# Altium schematic symbol library SG_SCH_AltSobor_work.SchLib: 78 symbols
Pins are listed as number, name and electrical type; pins without a type are passive.

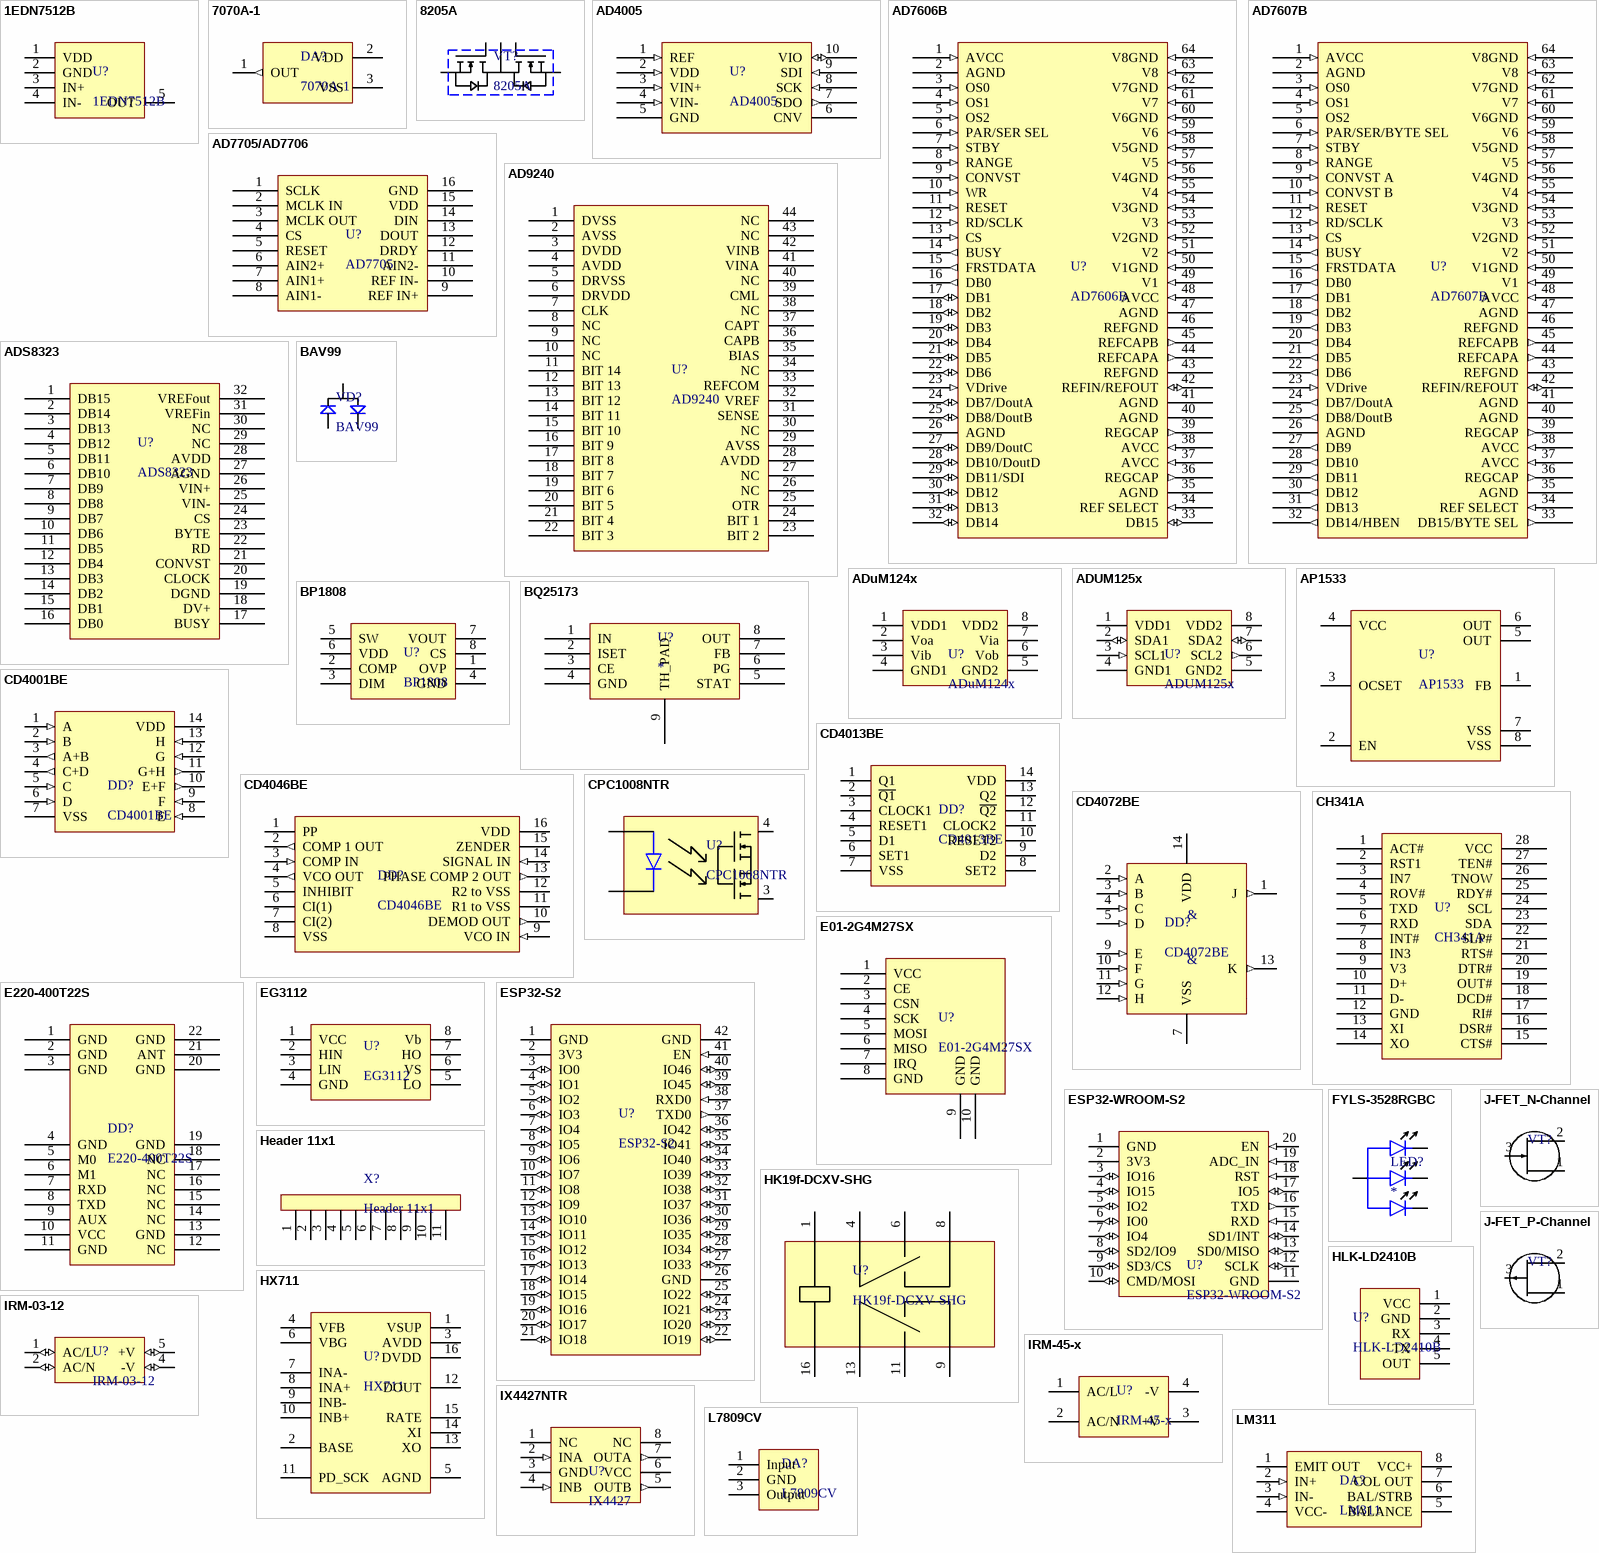
[diagram p0: symbols 1EDN7512B to LM311]

## 1EDN7512B
designator U?
Advanced single-channel drive; Order: 1EDN7512B
footprint SOT23-5
pins: 1 VDD, 2 GND, 3 IN+, 4 IN-, 5 OUT

## 7070A-1
designator DA?
Low Power Voltage Detector
pins: 1 OUT (out), 2 VDD (power), 3 VSS (power)

## 8205A
designator VT?
Dual N-Channel Enhancement PowerMosfet; Order: 8205A
footprint SOT23-6
pins: 1 S1, 2 D1/D2, 3 S2, 4 G2, 5 D1/D2, 6 G1

## AD4005
designator U?
ADC 16 bit, 1MSPS
pins: 1 REF (in), 2 VDD (in), 3 VIN+ (in), 4 VIN- (in), 5 GND (power), 6 CNV, 7 SDO (out), 8 SCK (in), 9 SDI (in), 10 VIO (io)

## AD7606B
designator U?
ADC 16-bit, 800ksps, parallel
pins: 1 AVCC (in), 2 AGND (power), 3 OS0 (in), 4 OS1 (in), 5 OS2 (in), 6 PAR/SER SEL (in), 7 STBY (in), 8 RANGE (in), 9 CONVST (in), 10 WR (in), 11 RESET (in), 12 RD/SCLK (in), 13 CS (in), 14 BUSY (out), 15 FRSTDATA (out), 16 DB0 (out), 17 DB1 (io), 18 DB2 (io), 19 DB3 (io), 20 DB4 (io), 21 DB5 (io), 22 DB6 (io), 23 VDrive (in), 24 DB7/DoutA (io), 25 DB8/DoutB (io), 26 AGND (power), 27 DB9/DoutC (io), 28 DB10/DoutD (io), 29 DB11/SDI (io), 30 DB12 (io), 31 DB13 (io), 32 DB14 (io), 33 DB15 (io), 34 REF SELECT (in), 35 AGND (power), 36 REGCAP (out), 37 AVCC (in), 38 AVCC (in), 39 REGCAP (out), 40 AGND (power), 41 AGND (power), 42 REFIN/REFOUT (io), 43 REFGND (power), 44 REFCAPA (out), 45 REFCAPB (out), 46 REFGND (power), 47 AGND (power), 48 AVCC (in), 49 V1 (in), 50 V1GND (in), 51 V2 (in), 52 V2GND (in), 53 V3 (in), 54 V3GND (in), 55 V4 (in), 56 V4GND (in), 57 V5 (in), 58 V5GND (in), 59 V6 (in), 60 V6GND (in), 61 V7 (in), 62 V7GND (in), 63 V8 (in), 64 V8GND (in)

## AD7607B
designator U?
ADC 16-bit, 800ksps, parallel
pins: 1 AVCC (in), 2 AGND (power), 3 OS0 (in), 4 OS1 (in), 5 OS2, 6 PAR/SER/BYTE SEL (in), 7 STBY (in), 8 RANGE (in), 9 CONVST A (in), 10 CONVST B (in), 11 RESET (in), 12 RD/SCLK (in), 13 CS (in), 14 BUSY (out), 15 FRSTDATA (out), 16 DB0 (out), 17 DB1 (out), 18 DB2 (out), 19 DB3 (out), 20 DB4 (out), 21 DB5 (out), 22 DB6 (out), 23 VDrive (in), 24 DB7/DoutA (out), 25 DB8/DoutB (out), 26 AGND (power), 27 DB9 (out), 28 DB10 (out), 29 DB11 (out), 30 DB12 (out), 31 DB13 (out), 32 DB14/HBEN (out), 33 DB15/BYTE SEL (out), 34 REF SELECT (in), 35 AGND (power), 36 REGCAP (out), 37 AVCC (in), 38 AVCC (in), 39 REGCAP (out), 40 AGND (power), 41 AGND (power), 42 REFIN/REFOUT (io), 43 REFGND (power), 44 REFCAPA (out), 45 REFCAPB (out), 46 REFGND (power), 47 AGND (power), 48 AVCC (in), 49 V1 (in), 50 V1GND (in), 51 V2 (in), 52 V2GND (in), 53 V3 (in), 54 V3GND (in), 55 V4 (in), 56 V4GND (in), 57 V5 (in), 58 V5GND (in), 59 V6 (in), 60 V6GND (in), 61 V7 (in), 62 V7GND (in), 63 V8 (in), 64 V8GND (in)

## AD7705/AD7706
designator U?, comment AD7705
2 fully differential input channel ADCs 16 bit
pins: 1 SCLK, 2 MCLK IN, 3 MCLK OUT, 4 CS, 5 RESET, 6 AIN2+, 7 AIN1+, 8 AIN1-, 9 REF IN+, 10 REF IN-, 11 AIN2-, 12 DRDY, 13 DOUT, 14 DIN, 15 VDD, 16 GND

## AD9240
designator U?
ADC 14 bit
pins: 1 DVSS, 2 AVSS, 3 DVDD, 4 AVDD, 5 DRVSS, 6 DRVDD, 7 CLK, 8 NC, 9 NC, 10 NC, 11 BIT 14, 12 BIT 13, 13 BIT 12, 14 BIT 11, 15 BIT 10, 16 BIT 9, 17 BIT 8, 18 BIT 7, 19 BIT 6, 20 BIT 5, 21 BIT 4, 22 BIT 3, 23 BIT 2, 24 BIT 1, 25 OTR, 26 NC, 27 NC, 28 AVDD, 29 AVSS, 30 NC, 31 SENSE, 32 VREF, 33 REFCOM, 34 NC, 35 BIAS, 36 CAPB, 37 CAPT, 38 NC, 39 CML, 40 NC, 41 VINA, 42 VINB, 43 NC, 44 NC

## ADS8323
designator U?
ADC 16 bit 500 kSPS; Order: ADS8323
footprint QFN-32 (, Pitch 0,40mm, Thermal Pad 2,80x2,80mm, IPC Medium Density)
footprint TQFP-32 (TQFP, 32-Leads, Body 7,00x7,00mm, Pitch 0,80mm, IPC Medium Density)
pins: 1 DB15, 2 DB14, 3 DB13, 4 DB12, 5 DB11, 6 DB10, 7 DB9, 8 DB8, 9 DB7, 10 DB6, 11 DB5, 12 DB4, 13 DB3, 14 DB2, 15 DB1, 16 DB0, 17 BUSY, 18 DV+, 19 DGND, 20 CLOCK, 21 CONVST, 22 RD, 23 BYTE, 24 CS, 25 VIN-, 26 VIN+, 27 AGND, 28 AVDD, 29 NC, 30 NC, 31 VREFin, 32 VREFout

## ADuM124x
designator U?
Order: ADuM124x
footprint Order (Footprint not found)
footprint SO-8 (Small Outline; 8 Leads; Body Width 3.9 mm; Pitch 1.27 mm)
pins: 1 VDD1, 2 Voa, 3 Vib, 4 GND1, 5 GND2, 6 Vob, 7 Via, 8 VDD2

## ADUM125x
designator U?
Hot Swappable Dual I2C Isolators; Order: ADUM1251
footprint SO-8 (Small Outline; 8 Leads; Body Width 3.9 mm; Pitch 1.27 mm)
pins: 1 VDD1 (power), 2 SDA1 (io), 3 SCL1 (in), 4 GND1 (power), 5 GND2 (power), 6 SCL2 (out), 7 SDA2 (io), 8 VDD2 (power)

## AP1533
designator U?
PWM CONTROL 1.8A STEP-DOWN CONVERTER
pins: 1 FB, 2 EN, 3 OCSET, 4 VCC, 5 OUT, 6 OUT, 7 VSS, 8 VSS

## BAV99
designator VD?
High-speed switching diodes; Order: BAV99
footprint SOT23-3
pins: 1, 2, 3

## BP1808
designator U?
Boost, Buck and Buck-Boost DC/DC LED Driver
footprint SO-8 (Small Outline; 8 Leads; Body Width 3.9 mm; Pitch 1.27 mm)
pins: 1 OVP, 2 COMP, 3 DIM, 4 GND, 5 SW, 6 VDD, 7 VOUT, 8 CS

## BQ25173
designator U?
pins: 1 IN (power), 2 ISET, 3 CE, 4 GND (power), 5 STAT, 6 PG, 7 FB, 8 OUT (power), 9 TH_PAD

## CD4001BE
designator DD?
4 & logic; Order: CD4001BE
pins: 1 A (in), 2 B (in), 3 A+B (out), 4 C+D (out), 5 C (in), 6 D (in), 7 VSS (power), 8 E (in), 9 F (in), 10 E+F (out), 11 G+H (out), 12 G (in), 13 H (in), 14 VDD (power)

## CD4013BE
designator DD?
2xTrigger; Order: CD4013BE
pins: 1 Q1, 2 ~{Q1}, 3 CLOCK1, 4 RESET1, 5 D1, 6 SET1, 7 VSS, 8 SET2, 9 D2, 10 RESET2, 11 CLOCK2, 12 ~{Q2}, 13 Q2, 14 VDD

## CD4046BE
designator DD?
CMOS Micropower Phase-Locked Loop
footprint DIP-16
pins: 1 PP, 2 COMP 1 OUT (out), 3 COMP IN (in), 4 VCO OUT (out), 5 INHIBIT, 6 CI(1), 7 CI(2), 8 VSS (power), 9 VCO IN (in), 10 DEMOD OUT (out), 11 R1 to VSS, 12 R2 to VSS, 13 PHASE COMP 2 OUT (out), 14 SIGNAL IN (in), 15 ZENDER (power), 16 VDD (power)

## CD4072BE
designator DD?
2x4-input OR; Order: CD4072BE
pins: 1 J (out), 2 A (in), 3 B (in), 4 C (in), 5 D (in), 6 NC, 7 VSS (power), 8 NC, 9 E (in), 10 F (in), 11 G (in), 12 H (in), 13 K (out), 14 VDD (power)
text: &

## CH341A
designator U?
USB-UART convertor
pins: 1 ACT#, 2 RST1, 3 IN7, 4 ROV#, 5 TXD, 6 RXD, 7 INT#, 8 IN3, 9 V3, 10 D+, 11 D-, 12 GND, 13 XI, 14 XO, 15 CTS#, 16 DSR#, 17 RI#, 18 DCD#, 19 OUT#, 20 DTR#, 21 RTS#, 22 SLP#, 23 SDA, 24 SCL, 25 RDY#, 26 TNOW, 27 TEN#, 28 VCC

## CPC1008NTR
designator U?
4-Pin SOP OptoMOS® Relay; Order: CPC1008NTR
footprint 4-SMD (SOIC, 4-Leads, Body 4,60x6,50mm, Pitch 1,27mm, IPC Medium Density)
pins: 1 Control+, 2 Control-, 3 Load, 4 Load

## E01-2G4M27SX
designator U?
NRF-Radio 2.4 GHz; Order: E01-2G4M27SX
pins: 1 VCC, 2 CE, 3 CSN, 4 SCK, 5 MOSI, 6 MISO, 7 IRQ, 8 GND, 9 GND, 10 GND

## E220-400T22S
designator DD?
22dBm LoRa module; Order: *; DefaultOrder: E220-400T22S
pins: 1 GND, 2 GND, 3 GND, 4 GND, 5 M0, 6 M1, 7 RXD, 8 TXD, 9 AUX, 10 VCC, 11 GND, 12 NC, 13 GND, 14 NC, 15 NC, 16 NC, 17 NC, 18 NC, 19 GND, 20 GND, 21 ANT, 22 GND

## EG3112
designator U?
Драйвер управления затвором; Order: EG3112
footprint SO-8 (Small Outline; 8 Leads; Body Width 3.9 mm; Pitch 1.27 mm)
pins: 1 VCC, 2 HIN, 3 LIN, 4 GND, 5 LO, 6 VS, 7 HO, 8 Vb

## ESP32-S2
designator U?
pins: 1 GND (power), 2 3V3 (power), 3 IO0 (io), 4 IO1 (io), 5 IO2 (io), 6 IO3 (io), 7 IO4 (io), 8 IO5 (io), 9 IO6 (io), 10 IO7 (io), 11 IO8 (io), 12 IO9 (io), 13 IO10 (io), 14 IO11 (io), 15 IO12 (io), 16 IO13 (io), 17 IO14 (io), 18 IO15 (io), 19 IO16 (io), 20 IO17 (io), 21 IO18 (io), 22 IO19 (io), 23 IO20 (io), 24 IO21 (io), 25 IO22 (io), 26 GND (power), 27 IO33 (io), 28 IO34 (io), 29 IO35 (io), 30 IO36 (io), 31 IO37 (io), 32 IO38 (io), 33 IO39 (io), 34 IO40 (io), 35 IO41 (io), 36 IO42 (io), 37 TXD0 (out), 38 RXD0 (in), 39 IO45 (io), 40 IO46 (io), 41 EN (in), 42 GND (power)

## ESP32-WROOM-S2
designator U?
pins: 1 GND (power), 2 3V3 (power), 3 IO16 (io), 4 IO15 (io), 5 IO2 (io), 6 IO0 (io), 7 IO4 (io), 8 SD2/IO9 (io), 9 SD3/CS (io), 10 CMD/MOSI (io), 11 GND (power), 12 SCLK (io), 13 SD0/MISO (io), 14 SD1/INT (io), 15 RXD (in), 16 TXD (out), 17 IO5 (io), 18 RST (in), 19 ADC_IN (in), 20 EN (in)

## FYLS-3528RGBC
designator LED?
Light Emmiting RGB Diode; Order: FYLS-3528RGBC
pins: 1 RED, 2 Anode, 3 GREEN, 4 BLUE

## Header 11x1
designator X?
Order: *
pins: 1, 2, 3, 4, 5, 6, 7, 8, 9, 10, 11

## HK19f-DCXV-SHG
designator U?
Реле; Order: HK19f-DCXV-SHG
pins: 1, 4, 6, 8, 9, 11, 13, 16

## HLK-LD2410B
designator U?
Human presence sensing module / Serial communication protocol; Order: HLK-LD2410B
pins: 1 VCC, 2 GND, 3 RX, 4 TX, 5 OUT

## HX711
designator U?
24-Bit Analog-to-Digital Converter (ADC) for Weigh Scales; Order: HX711
footprint SO-16
footprint SO-16_300mil
pins: 1 VSUP, 2 BASE, 3 AVDD, 4 VFB, 5 AGND, 6 VBG, 7 INA-, 8 INA+, 9 INB-, 10 INB+, 11 PD_SCK, 12 DOUT, 13 XO, 14 XI, 15 RATE, 16 DVDD

## IRM-03-12
designator U?
Order: IRM-03-12
footprint IRM-03-12
pins: 1 AC/L (io), 2 AC/N (io), 3 NC, 4 -V (io), 5 +V (io), 6 NC, 7 NC

## IRM-45-x
designator U?
45W AC-DC PCB-Mount Green Power Module; Order: *
footprint IRM-45
pins: 1 AC/L (power), 2 AC/N (power), 3 +V (power), 4 -V (power)

## IX4427NTR
designator U?, comment IX4427
1.5-Ampere Dual Low-Side / Ultrafast MOSFET Drivers; Order: IX4427NTR
footprint SO-8 (Small Outline; 8 Leads; Body Width 3.9 mm; Pitch 1.27 mm)
pins: 1 NC, 2 INA (in), 3 GND (power), 4 INB (in), 5 OUTB (out), 6 VCC (power), 7 OUTA (out), 8 NC

## J-FET_N-Channel
designator VT?
Order: *
footprint SOT23-3
pins: 1 S, 2 D, 3 G

## J-FET_P-Channel
designator VT?
Order: *
footprint SOT23-3
pins: 1 S, 2 D, 3 G

## L7809CV
designator DA?
L7809CV, Стабилизатор напряжения +9В, 1.5А, 4%, (0°C...+125°C), [TO-220]; Order: L7809CV
footprint TO-220
pins: 1 Input, 2 GND, 3 Output

## LM311
designator DA?
LMx11 Quad Differential Comparators; Order: LM311
footprint SO-8 (Small Outline; 8 Leads; Body Width 3.9 mm; Pitch 1.27 mm)
footprint DIP-8-300 (DIP; 8 Leads; Row Spacing 7.62 mm; Pitch 2.54 mm)
pins: 1 EMIT OUT (oe), 2 IN+ (in), 3 IN- (in), 4 VCC- (power), 5 BALANCE, 6 BAL/STRB, 7 COL OUT (oc), 8 VCC+

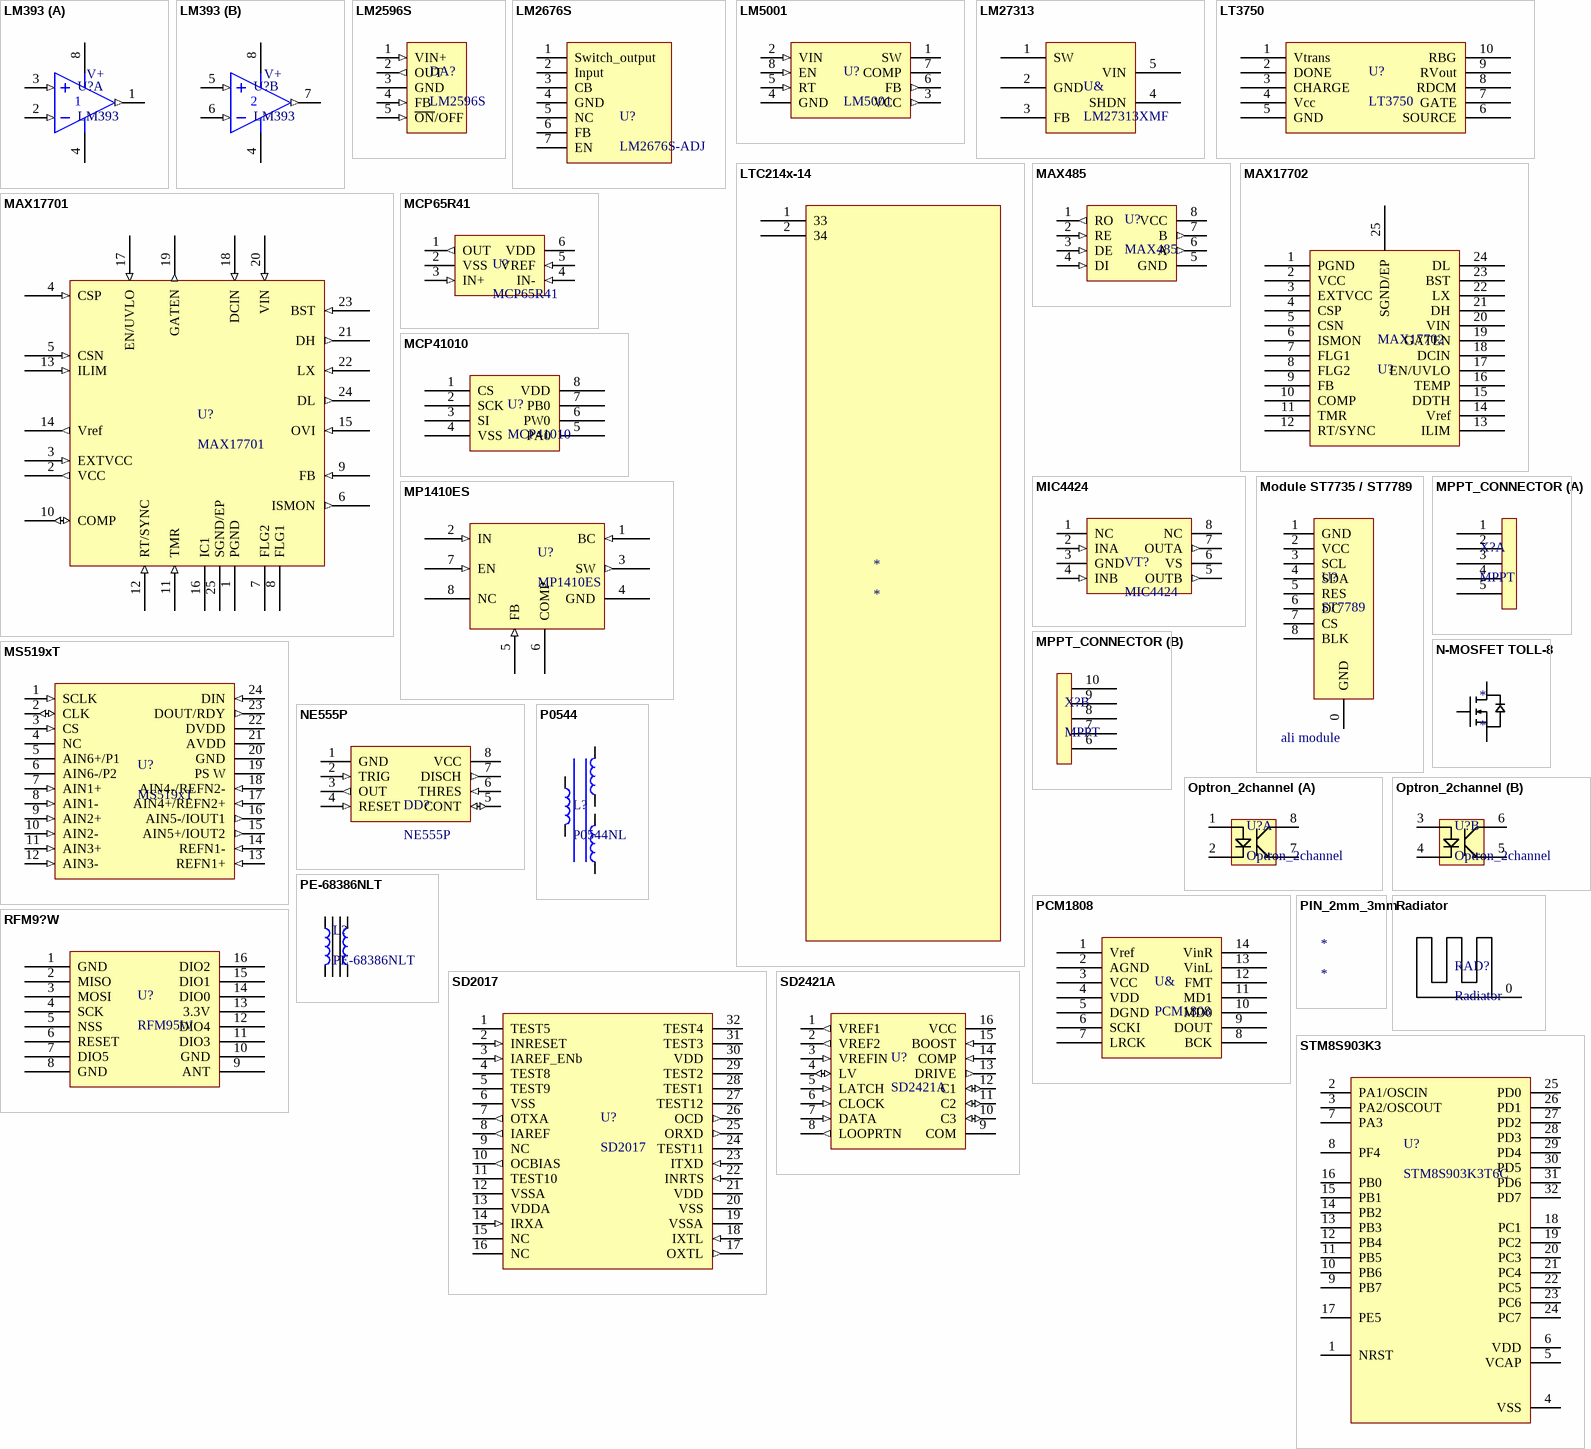
[diagram p1: symbols LM393 to STM8S903K3]

## LM393
designator U?
Двойной маломощный компаратор напряжения
part A pins: 1 OUT (out), 2 IN+ (in), 3 IN- (in), 4 V- (power), 8 V+ (power)
part B pins: 4 V- (power), 5 IN- (in), 6 IN+ (in), 7 OUT (out), 8 V+ (power)

## LM2596S
designator DA?
3A Step-Down Voltage Regulator; Order: LM2596S
pins: 1 VIN+ (in), 2 OUT (out), 3 GND (power), 4 FB (in), 5 ~{ON}/OFF (in)

## LM2676S
designator U?, comment LM2676S-ADJ
LM2676 SIMPLE SWITCHER® High Efficiency 3-A Step-Down Voltage Regulator; Order: LM2676S-ADJ
pins: 1 Switch_output, 2 Input, 3 CB, 4 GND, 5 NC, 6 FB, 7 EN

## LM5001
designator U?
High-Voltage Switch-Mode Regulator; Order: LM5001
footprint SO-8 (Small Outline; 8 Leads; Body Width 3.9 mm; Pitch 1.27 mm)
pins: 1 SW (oc), 2 VIN (in), 3 VCC (out), 4 GND (power), 5 RT (in), 6 FB (out), 7 COMP (oc), 8 EN (in)

## LM27313
designator U&, comment LM27313XMF
Order: LM27313XMF
footprint sop (Footprint not found)
footprint SOT23-5
pins: 1 SW, 2 GND, 3 FB, 4 SHDN, 5 VIN

## LT3750
designator U?
Capacitor Charger Controller
pins: 1 Vtrans (power), 2 DONE, 3 CHARGE, 4 Vcc (power), 5 GND (power), 6 SOURCE, 7 GATE, 8 RDCM, 9 RVout (power), 10 RBG

## LTC214x-14
designator *
pins: 1 33, 2 34

## MAX485
designator U?
Low-Power, Slew-Rate-Limited RS-485/RS-422 Transceivers; Order: MAX485ESA+T
footprint SO-8 (Small Outline; 8 Leads; Body Width 3.9 mm; Pitch 1.27 mm)
pins: 1 RO (out), 2 RE (in), 3 DE (in), 4 DI (in), 5 GND (power), 6 A (out), 7 B (out), 8 VCC (power)

## MAX17701
designator U?
Supercap charger
pins: 1 PGND (power), 2 VCC (out), 3 EXTVCC (in), 4 CSP (in), 5 CSN (in), 6 ISMON (out), 7 FLG2 (oc), 8 FLG1 (oc), 9 FB (in), 10 COMP (io), 11 TMR (in), 12 RT/SYNC (in), 13 ILIM (in), 14 Vref (out), 15 OVI (in), 16 IC1, 17 EN/UVLO (in), 18 DCIN (in), 19 GATEN (out), 20 VIN (in), 21 DH (out), 22 LX (in), 23 BST (in), 24 DL (out), 25 SGND/EP (power)

## MAX17702
designator MAX17702, comment U?
LEAD ACID charger (not supercap)
pins: 1 PGND, 2 VCC, 3 EXTVCC, 4 CSP, 5 CSN, 6 ISMON, 7 FLG1, 8 FLG2, 9 FB, 10 COMP, 11 TMR, 12 RT/SYNC, 13 ILIM, 14 Vref, 15 DDTH, 16 TEMP, 17 EN/UVLO, 18 DCIN, 19 GATEN, 20 VIN, 21 DH, 22 LX, 23 BST, 24 DL, 25 SGND/EP

## MCP65R41
designator U?
3 µA Comparator with Integrated Reference Voltage; Order: MCP65R41
footprint SOT23-6
pins: 1 OUT (out), 2 VSS (power), 3 IN+ (in), 4 IN- (in), 5 VREF (in), 6 VDD (power)

## MCP41010
designator U?
Digital reostat soic-8 256 pos; Order: *
pins: 1 CS, 2 SCK, 3 SI, 4 VSS, 5 PA0, 6 PW0, 7 PB0, 8 VDD

## MIC4424
designator VT?
Dual 3A-Peak Low-Side MOSFET Driver; Oredr: MIC4424
pins: 1 NC, 2 INA (in), 3 GND (power), 4 INB (in), 5 OUTB (out), 6 VS (power), 7 OUTA (out), 8 NC

## Module ST7735 / ST7789
designator U?, comment ST7789  Order: ali module
Module ST7735 / ST7789 Screen
pins: 0 GND, 1 GND, 2 VCC, 3 SCL, 4 SDA, 5 RES, 6 DC, 7 CS, 8 BLK

## MP1410ES
designator U?
Step-down DCDC
footprint SO-8 (Small Outline; 8 Leads; Body Width 3.9 mm; Pitch 1.27 mm)
pins: 1 BC (in), 2 IN (in), 3 SW (out), 4 GND (power), 5 FB (in), 6 COMP, 7 EN (in), 8 NC

## MPPT_CONNECTOR
designator X?, comment MPPT
part A pins: 1, 2, 3, 4, 5
part B pins: 6, 7, 8, 9, 10

## MS519xT
designator U?
Low Noise, Low Power Dissipation, 24/16-Bit ∑-Δ ADC; Order: *MS5194T
footprint TSSOP-24 (TSOP, 24-Leads, Body 7,80x4,40mm, Pitch 0,65mm, IPC Medium Density)
pins: 1 SCLK (in), 2 CLK (io), 3 CS (in), 4 NC, 5 AIN6+/P1, 6 AIN6-/P2, 7 AIN1+ (in), 8 AIN1- (in), 9 AIN2+ (in), 10 AIN2- (in), 11 AIN3+ (in), 12 AIN3- (in), 13 REFN1+ (in), 14 REFN1- (in), 15 AIN5+/IOUT2 (out), 16 AIN5-/IOUT1 (out), 17 AIN4+/REFN2+ (in), 18 AIN4-/REFN2- (in), 19 PS W, 20 GND (power), 21 AVDD (power), 22 DVDD (power), 23 DOUT/RDY (out), 24 DIN (in)

## N-MOSFET TOLL-8
designator *
Order: *
footprint TOLL-8
pins: 1, 2, 3, 4, 5, 6, 7, 8, 9

## NE555P
designator DD?
xx555 Precision Timers
pins: 1 GND (power), 2 TRIG (in), 3 OUT (out), 4 RESET (in), 5 CONT (io), 6 THRES (in), 7 DISCH (out), 8 VCC

## Optron_2channel
designator U?
part A pins: 1, 2 11, 7 (oe), 8 (oc)
part B pins: 3, 4, 5 (oe), 6 (oc)

## P0544
designator L?, comment P0544NL
SMT Gate Drive Transformer; Order: P0544NL
pins: 1 Первичная обмотка 1, 3 Вторичная обмотка 1.1, 4 Вторичная обмотка 2.1, 5 Вторичная обмотка 2.2, 6 Вторичная обмотка 1.2, 8 Первичная обмотка 2

## PCM1808
designator U&
audio ADC with serial output
pins: 1 Vref, 2 AGND, 3 VCC, 4 VDD, 5 DGND, 6 SCKI, 7 LRCK, 8 BCK, 9 DOUT, 10 MD0, 11 MD1, 12 FMT, 13 VinL, 14 VinR

## PE-68386NLT
designator L?
1:1 SMD,8.6x6.7mm Pulse Transformers(LAN); Order: PE-68386NLT
pins: 1 Первичка 1, 2 Вторичка 1, 3 Вторичка 2, 4 Первичка 2

## PIN_2mm_3mm
designator *

## Radiator
designator RAD?
pins: 0

## RFM9?W
designator U?, comment RFM95W
LoRa Transmitter; Order: RFM95W
pins: 1 GND, 2 MISO, 3 MOSI, 4 SCK, 5 NSS, 6 RESET, 7 DIO5, 8 GND, 9 ANT, 10 GND, 11 DIO3, 12 DIO4, 13 3.3V, 14 DIO0, 15 DIO1, 16 DIO2

## SD2017
designator U?
HART modem; Order: SD2017
footprint LQFP-32 (Thin QFP, 32-Leads, Body 7x7mm, Pitch 0.8mm, IPC Medium Density)
pins: 1 TEST5, 2 INRESET (in), 3 IAREF_ENb (in), 4 TEST8, 5 TEST9, 6 VSS, 7 OTXA (out), 8 IAREF (out), 9 NC, 10 OCBIAS (out), 11 TEST10, 12 VSSA (power), 13 VDDA (power), 14 IRXA (in), 15 NC, 16 NC, 17 OXTL (out), 18 IXTL (in), 19 VSSA (power), 20 VSS (power), 21 VDD (power), 22 INRTS (in), 23 ITXD (in), 24 TEST11, 25 ORXD (out), 26 OCD (out), 27 TEST12, 28 TEST1, 29 TEST2, 30 VDD (power), 31 TEST3, 32 TEST4

## SD2421A
designator U?
Loop Powered 4-20mA DAC (for HART); Order: SD2421A
footprint TSSOP-16
pins: 1 VREF1 (out), 2 VREF2 (out), 3 VREFIN (in), 4 LV (io), 5 LATCH (in), 6 CLOCK (in), 7 DATA (in), 8 LOOPRTN (out), 9 COM (power), 10 C3 (io), 11 C2 (io), 12 C1 (io), 13 DRIVE (out), 14 COMP (in), 15 BOOST (in), 16 VCC (power)

## STM8S903K3
designator U?, comment STM8S903K3T6C
MHz STM8S 8-bit MCU, up to 8 Kbytes Flash, 1 Kbyte RAM, / 640 bytes EEPROM,10-bit ADC, 2 timers, UART, SPI, I²C; Order: STM8S903K3
footprint QFN-32_CC1125 (CC1125 PVQFN)
pins: 1 NRST, 2 PA1/OSCIN, 3 PA2/OSCOUT, 4 VSS, 5 VCAP, 6 VDD, 7 PA3, 8 PF4, 9 PB7, 10 PB6, 11 PB5, 12 PB4, 13 PB3, 14 PB2, 15 PB1, 16 PB0, 17 PE5, 18 PC1, 19 PC2, 20 PC3, 21 PC4, 22 PC5, 23 PC6, 24 PC7, 25 PD0, 26 PD1, 27 PD2, 28 PD3, 29 PD4, 30 PD5, 31 PD6, 32 PD7

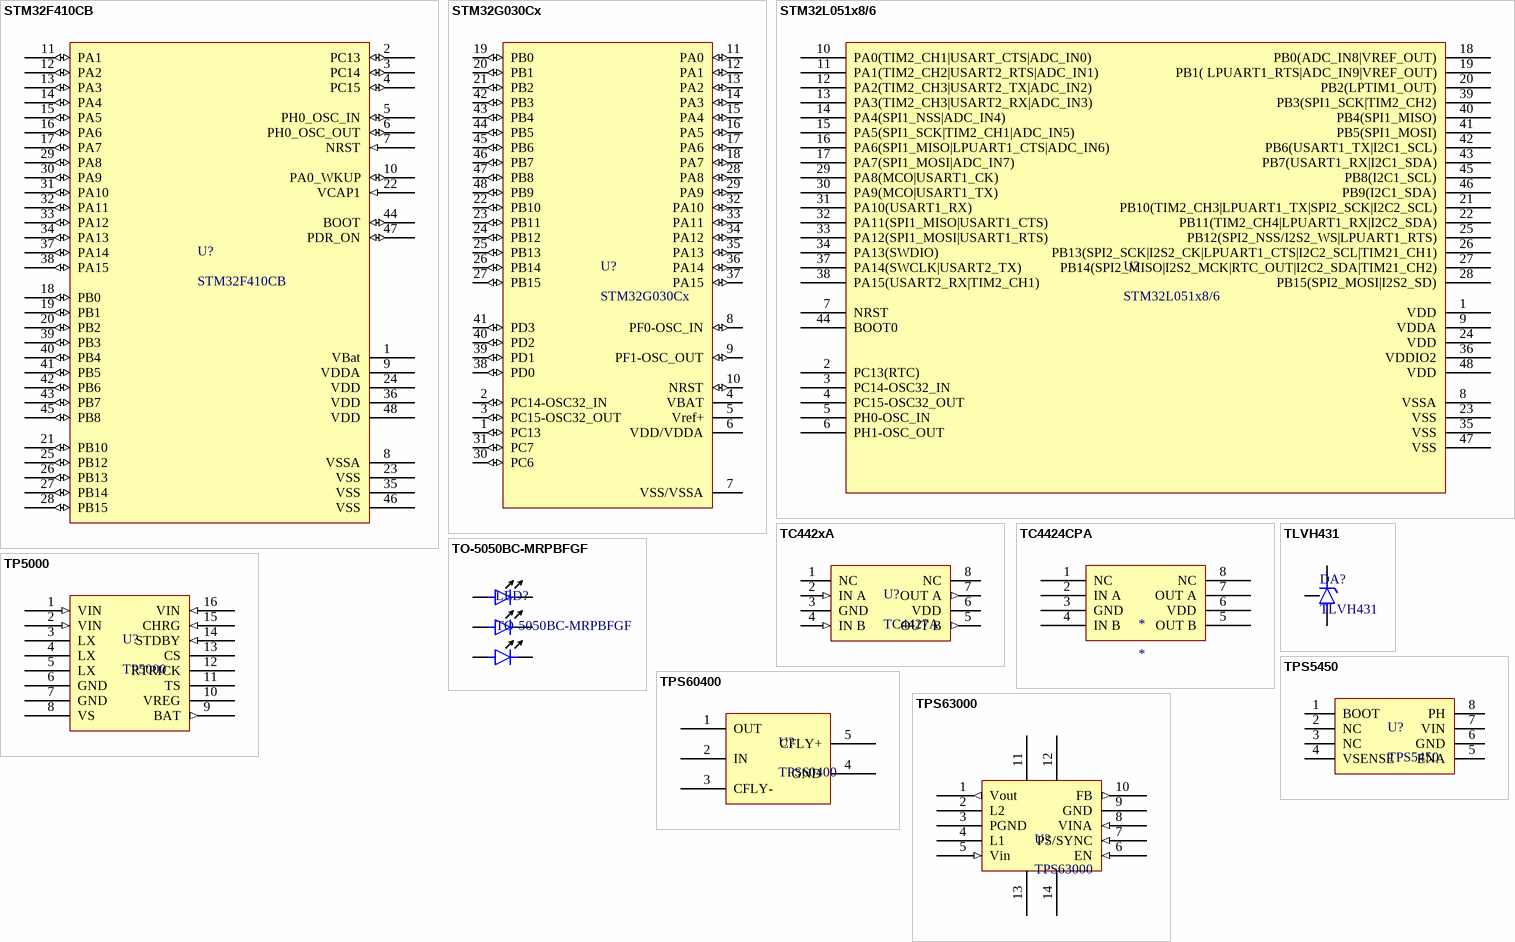
[diagram p2: symbols STM32F410CB to TPS63000]

## STM32F410CB
designator U?
Order: STM32F410XX LQFP48
footprint LQFP-48 (48-Pin Thin Quad Flat Pack 0.5 mm Pitch, IPC High Density)
pins: 1 VBat (power), 2 PC13 (io), 3 PC14 (io), 4 PC15 (io), 5 PH0_OSC_IN (io), 6 PH0_OSC_OUT (io), 7 NRST (in), 8 VSSA (power), 9 VDDA (power), 10 PA0_WKUP (io), 11 PA1 (io), 12 PA2 (io), 13 PA3 (io), 14 PA4 (io), 15 PA5 (io), 16 PA6 (io), 17 PA7 (io), 18 PB0 (io), 19 PB1 (io), 20 PB2 (io), 21 PB10 (io), 22 VCAP1 (in), 23 VSS (power), 24 VDD (power), 25 PB12 (io), 26 PB13 (io), 27 PB14 (io), 28 PB15 (io), 29 PA8 (io), 30 PA9 (io), 31 PA10 (io), 32 PA11 (io), 33 PA12 (io), 34 PA13 (io), 35 VSS (power), 36 VDD (power), 37 PA14 (io), 38 PA15 (io), 39 PB3 (io), 40 PB4 (io), 41 PB5 (io), 42 PB6 (io), 43 PB7 (io), 44 BOOT (io), 45 PB8 (io), 46 VSS (power), 47 PDR_ON (io), 48 VDD (power)

## STM32G030Cx
designator U?
Arm Cortex-M0+ 32-bit MCU, up to 64 KB Flash, 8 KB RAM, / 2x USART, timers, ADC, comm. I/Fs, 2.0-3.6V; Order: STM32G030C6T6
footprint LQFP-48 (48-Pin Thin Quad Flat Pack 0.5 mm Pitch, IPC High Density)
pins: 1 PC13 (io), 2 PC14-OSC32_IN (io), 3 PC15-OSC32_OUT (io), 4 VBAT (power), 5 Vref+ (power), 6 VDD/VDDA (power), 7 VSS/VSSA (power), 8 PF0-OSC_IN (io), 9 PF1-OSC_OUT (io), 10 NRST (io), 11 PA0 (io), 12 PA1 (io), 13 PA2 (io), 14 PA3 (io), 15 PA4 (io), 16 PA5 (io), 17 PA6 (io), 18 PA7 (io), 19 PB0 (io), 20 PB1 (io), 21 PB2 (io), 22 PB10 (io), 23 PB11 (io), 24 PB12 (io), 25 PB13 (io), 26 PB14 (io), 27 PB15 (io), 28 PA8 (io), 29 PA9 (io), 30 PC6 (io), 31 PC7 (io), 32 PA10 (io), 33 PA11 (io), 34 PA12 (io), 35 PA13 (io), 36 PA14 (io), 37 PA15 (io), 38 PD0 (io), 39 PD1 (io), 40 PD2 (io), 41 PD3 (io), 42 PB3 (io), 43 PB4 (io), 44 PB5 (io), 45 PB6 (io), 46 PB7 (io), 47 PB8 (io), 48 PB9 (io)

## STM32L051x8/6
designator U?
STM32L051x8/6 LQFP48; Order: STM32L051C8T6
footprint LQFP-48 (48-Pin Thin Quad Flat Pack 0.5 mm Pitch, IPC High Density)
pins: 1 VDD, 2 PC13(RTC), 3 PC14-OSC32_IN, 4 PC15-OSC32_OUT, 5 PH0-OSC_IN, 6 PH1-OSC_OUT, 7 NRST, 8 VSSA, 9 VDDA, 10 PA0(TIM2_CH1|USART_CTS|ADC_IN0), 11 PA1(TIM2_CH2|USART2_RTS|ADC_IN1) , 12 PA2(TIM2_CH3|USART2_TX|ADC_IN2), 13 PA3(TIM2_CH3|USART2_RX|ADC_IN3), 14 PA4(SPI1_NSS|ADC_IN4), 15 PA5(SPI1_SCK|TIM2_CH1|ADC_IN5), 16 PA6(SPI1_MISO|LPUART1_CTS|ADC_IN6), 17 PA7(SPI1_MOSI|ADC_IN7), 18 PB0(ADC_IN8|VREF_OUT), 19 PB1( LPUART1_RTS|ADC_IN9|VREF_OUT), 20 PB2(LPTIM1_OUT), 21 PB10(TIM2_CH3|LPUART1_TX|SPI2_SCK|I2C2_SCL), 22 PB11(TIM2_CH4|LPUART1_RX|I2C2_SDA), 23 VSS, 24 VDD, 25 PB12(SPI2_NSS/I2S2_WS|LPUART1_RTS), 26 PB13(SPI2_SCK|I2S2_CK|LPUART1_CTS|I2C2_SCL|TIM21_CH1), 27 PB14(SPI2_MISO|I2S2_MCK|RTC_OUT|I2C2_SDA|TIM21_CH2), 28 PB15(SPI2_MOSI|I2S2_SD), 29 PA8(MCO|USART1_CK), 30 PA9(MCO|USART1_TX), 31 PA10(USART1_RX), 32 PA11(SPI1_MISO|USART1_CTS), 33 PA12(SPI1_MOSI|USART1_RTS), 34 PA13(SWDIO), 35 VSS, 36 VDDIO2, 37 PA14(SWCLK|USART2_TX), 38 PA15(USART2_RX|TIM2_CH1), 39 PB3(SPI1_SCK|TIM2_CH2), 40 PB4(SPI1_MISO), 41 PB5(SPI1_MOSI), 42 PB6(USART1_TX|I2C1_SCL), 43 PB7(USART1_RX|I2C1_SDA), 44 BOOT0, 45 PB8(I2C1_SCL), 46 PB9(I2C1_SDA), 47 VSS, 48 VDD

## TC442xA
designator U?, comment TC4427A
Order: TC4427A
footprint SO-8 (Small Outline; 8 Leads; Body Width 3.9 mm; Pitch 1.27 mm)
pins: 1 NC, 2 IN A (in), 3 GND (power), 4 IN B (in), 5 OUT B (out), 6 VDD (power), 7 OUT A (out), 8 NC

## TC4424CPA
designator *
footprint DIP-8-300 (DIP; 8 Leads; Row Spacing 7.62 mm; Pitch 2.54 mm)
pins: 1 NC, 2 IN A, 3 GND, 4 IN B, 5 OUT B, 6 VDD, 7 OUT A, 8 NC

## TLVH431
designator DA?
LOW-VOLTAGE ADJUSTABLE PRECISION SHUNT REGULATORS 3pin; Order: *TLVH431
footprint SOT23-3
pins: 1 REF, 2 Cathode, 3 Anode

## TO-5050BC-MRPBFGF
designator LED?
Order: TO-5050BC-MRPBFGF
pins: 1 CathodeB, 2 CathodeG, 3 CathodeR, 4 AnodeR, 5 AnodeG, 6 AnodeB

## TP5000
designator U?
DC-DC battery charger
pins: 1 VIN (in), 2 VIN (in), 3 LX, 4 LX, 5 LX, 6 GND (power), 7 GND (power), 8 VS, 9 BAT (out), 10 VREG, 11 TS, 12 RTRICK, 13 CS, 14 STDBY (in), 15 CHRG (in), 16 VIN (in)

## TPS5450
designator U?
5-A, Wide Input Range, Step-Down Converter; Oreder: TPS5450
footprint SO-8 PowerPad (Small Outline; 8 Leads; Body Width 3.9 mm; Pitch 1.27 mm)
pins: 1 BOOT, 2 NC, 3 NC, 4 VSENSE, 5 ENA, 6 GND, 7 VIN, 8 PH

## TPS60400
designator U?
DC-DC  power Invertor (1.6-5.5V)
footprint SOT23-5
pins: 1 OUT, 2 IN, 3 CFLY-, 4 GND, 5 CFLY+

## TPS63000
designator U?
DCDC buck boost convertor
pins: 1 Vout (out), 2 L2, 3 PGND (power), 4 L1, 5 Vin (in), 6 EN (in), 7 PS/SYNC (in), 8 VINA (in), 9 GND (power), 10 FB (out), 11 (power), 12 (power), 13 (power), 14 (power)